# Altium footprint library SIM_CHIP.PcbLib: 1 footprints
Each footprint in its own frame and in the unit in brackets; x right, y up, seen from the top. Pads: shape width x height; smd on the part's side, far side on the other; paste and mask are expansions set on the pad; w line width, h text height; cw(c..) or ccw(c..) is an arc to the next point about the centre after c.
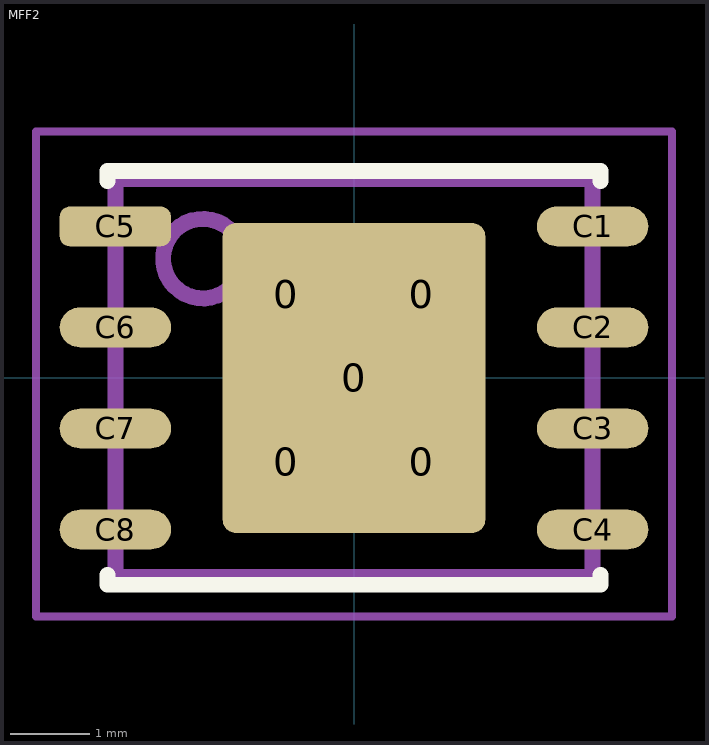
[diagram p0: the footprint, top view; thin cyan lines are the x and y axes]

## MFF2 [mm] "eSIM card MFF2 size"
height 0.9
pads (13):
  rrect20% 1.4x1.6 smd: 0(-0.85,-1.05) 0(-0.85,1.05) 0(0.85,-1.05) 0(0.85,1.05)
  rrect10% 3.3x3.9 smd paste-4: 0(0,0)
  oval 1.4x0.5 smd: C1(3,1.905) C2(3,0.635) C3(3,-0.635) C4(3,-1.905) C6(-3,0.635) C7(-3,-0.635) C8(-3,-1.905)
  rrect50% 1.4x0.5 smd: C5(-3,1.905)
Top Overlay:
  lines w0.2: -3.1,-2.475 -3.1,-2.6 3.1,-2.6 3.1,-2.475 ; -3.1,2.475 -3.1,2.6 3.1,2.6 3.1,2.475
3D Top:
  circle w0.2: c-1.9,1.5 r0.5
  lines w0.2: -3,-2.5 -3,2.5 3,2.5 3,-2.5 -3,-2.5
Courtyard Top:
  lines w0.1: -0.5,0 0.5,0 ; 0,-0.5 0,0.5 ; -4,-3 4,-3 4,3.1 -4,3.1 -4,-3
3D body: height 0.95, standoff 0, extent -2.396,1.001 -1.4,1.999
3D body: height 0.9, standoff 0, extent -3,-2.5 3,2.5